# Altium schematic symbol library jlcpcb_2025_04_inductors_extended_1812.schlib: 80 symbols (part 2 of 2)
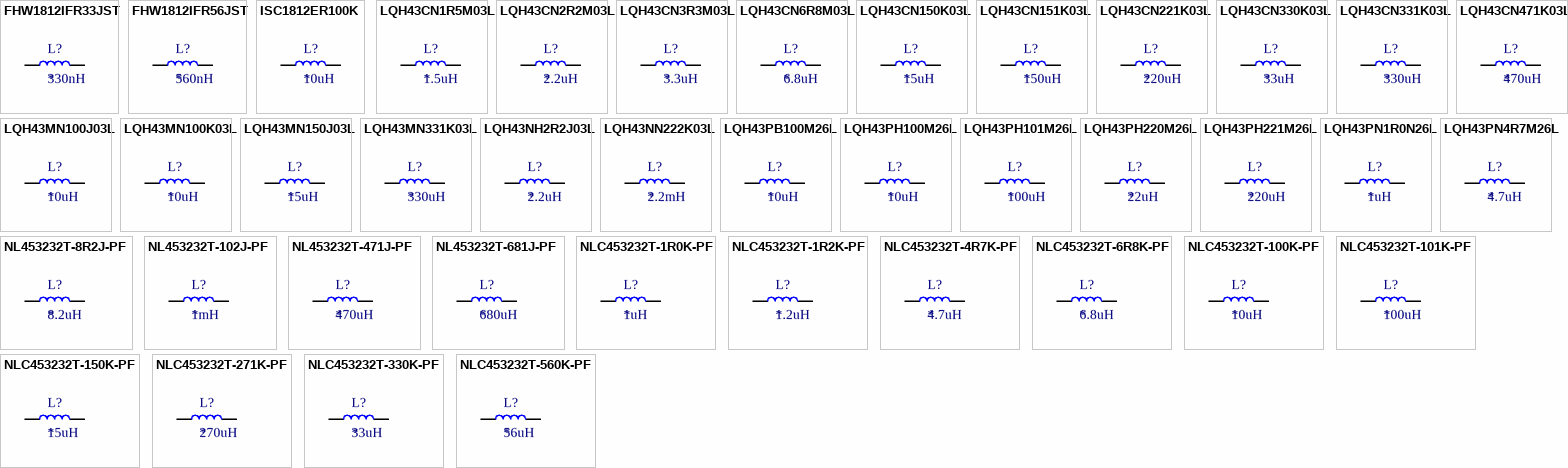
[diagram p2: symbols FHW1812IFR33JST to NLC453232T-560K-PF]

## LQH43CN330K03L
designator L?  Inductance: 33uH
Inductor, 33uH, ±10%, 1Ω, 310mA, SMD 1812; Manufacturer: Murata Electronics; Manufacturer Part Number: LQH43CN330K03L; Package Size: 1812; JLCPCB Basic Part: No; JLCPCB Part Number: C703772; Supplier 1: LCSC; Category: Inductors; Supplier Part Number 1: C703772; Tolerance: ±10%; Rated Current: 310mA; DC Resistance: 1Ω; RoHS: Yes; ComponentLink1Description: Datasheet; ComponentLink1URL: https://wmsc.lcsc.com/wmsc/upload/file/pdf/v2/lcsc/2304140030_Murata-Electronics-LQH43CN330K03L_C703772.pdf; ComponentLink2Description: JLCPCB Part URL; ComponentLink2URL: https://jlcpcb.com/partdetail/C703772; ComponentLink3Description: LCSC Part URL; ComponentLink3URL: https://lcsc.com/product-detail/Power-Inductors_Murata-Electronics-Murata-Electronics-LQH43CN330K03L_C703772.html
footprint IND-1812 (1812 (4532M) Inductor)
pins: 1, 2

## LQH43CN331K03L
designator L?  Inductance: 330uH
Inductor, 330uH, ±10%, 6.8Ω, 100mA, SMD 1812; Manufacturer: Murata Electronics; Manufacturer Part Number: LQH43CN331K03L; Package Size: 1812; JLCPCB Basic Part: No; JLCPCB Part Number: C703771; Supplier 1: LCSC; Category: Inductors; Supplier Part Number 1: C703771; Tolerance: ±10%; Rated Current: 100mA; DC Resistance: 6.8Ω; RoHS: Yes; ComponentLink1Description: Datasheet; ComponentLink1URL: https://wmsc.lcsc.com/wmsc/upload/file/pdf/v2/lcsc/2304140030_Murata-Electronics-LQH43CN331K03L_C703771.pdf; ComponentLink2Description: JLCPCB Part URL; ComponentLink2URL: https://jlcpcb.com/partdetail/C703771; ComponentLink3Description: LCSC Part URL; ComponentLink3URL: https://lcsc.com/product-detail/Power-Inductors_Murata-Electronics-Murata-Electronics-LQH43CN331K03L_C703771.html
footprint IND-1812 (1812 (4532M) Inductor)
pins: 1, 2

## LQH43CN471K03L
designator L?  Inductance: 470uH
Inductor, 470uH, ±10%, 8.5Ω, 90mA, SMD 1812; Manufacturer: Murata Electronics; Manufacturer Part Number: LQH43CN471K03L; Self-Resonant Frequency: 3MHz; Package Size: 1812; JLCPCB Basic Part: No; JLCPCB Part Number: C703770; Supplier 1: LCSC; Category: Inductors; Supplier Part Number 1: C703770; Tolerance: ±10%; Rated Current: 90mA; DC Resistance: 8.5Ω; RoHS: Yes; ComponentLink1Description: Datasheet; ComponentLink1URL: https://wmsc.lcsc.com/wmsc/upload/file/pdf/v2/lcsc/2304140030_Murata-Electronics-LQH43CN471K03L_C703770.pdf; ComponentLink2Description: JLCPCB Part URL; ComponentLink2URL: https://jlcpcb.com/partdetail/C703770; ComponentLink3Description: LCSC Part URL; ComponentLink3URL: https://lcsc.com/product-detail/Inductors-SMD_Murata-Electronics-Murata-Electronics-LQH43CN471K03L_C703770.html
footprint IND-1812 (1812 (4532M) Inductor)
pins: 1, 2

## LQH43MN100J03L
designator L?  Inductance: 10uH
Inductor, 10uH, ±5%, 560mΩ, 400mA, SMD 1812; Manufacturer: Murata Electronics; Manufacturer Part Number: LQH43MN100J03L; Package Size: 1812; JLCPCB Basic Part: No; JLCPCB Part Number: C478840; Supplier 1: LCSC; Category: Inductors; Supplier Part Number 1: C478840; Tolerance: ±5%; Rated Current: 400mA; DC Resistance: 560mΩ; RoHS: Yes; ComponentLink1Description: Datasheet; ComponentLink1URL: https://wmsc.lcsc.com/wmsc/upload/file/pdf/v2/lcsc/2304140030_Murata-Electronics-LQH43MN100J03L_C478840.pdf; ComponentLink2Description: JLCPCB Part URL; ComponentLink2URL: https://jlcpcb.com/partdetail/C478840; ComponentLink3Description: LCSC Part URL; ComponentLink3URL: https://lcsc.com/product-detail/Inductors-SMD_Murata-Electronics-Murata-Electronics-LQH43MN100J03L_C478840.html
footprint IND-1812 (1812 (4532M) Inductor)
pins: 1, 2

## LQH43MN100K03L
designator L?  Inductance: 10uH
Inductor, 10uH, ±10%, 560mΩ, 400mA, SMD 1812; Manufacturer: Murata Electronics; Manufacturer Part Number: LQH43MN100K03L; Package Size: 1812; JLCPCB Basic Part: No; JLCPCB Part Number: C426331; Supplier 1: LCSC; Category: Inductors; Supplier Part Number 1: C426331; Tolerance: ±10%; Rated Current: 400mA; DC Resistance: 560mΩ; RoHS: Yes; ComponentLink1Description: Datasheet; ComponentLink1URL: https://wmsc.lcsc.com/wmsc/upload/file/pdf/v2/lcsc/2304140030_Murata-Electronics-LQH43MN100K03L_C426331.pdf; ComponentLink2Description: JLCPCB Part URL; ComponentLink2URL: https://jlcpcb.com/partdetail/C426331; ComponentLink3Description: LCSC Part URL; ComponentLink3URL: https://lcsc.com/product-detail/Inductors-SMD_Murata-Electronics-Murata-Electronics-LQH43MN100K03L_C426331.html
footprint IND-1812 (1812 (4532M) Inductor)
pins: 1, 2

## LQH43MN150J03L
designator L?  Inductance: 15uH
Inductor, 15uH, ±5%, 730mΩ, 360mA, SMD 1812; Manufacturer: Murata Electronics; Manufacturer Part Number: LQH43MN150J03L; Package Size: 1812; JLCPCB Basic Part: No; JLCPCB Part Number: C603125; Supplier 1: LCSC; Category: Inductors; Supplier Part Number 1: C603125; Tolerance: ±5%; Rated Current: 360mA; DC Resistance: 730mΩ; RoHS: Yes; ComponentLink1Description: Datasheet; ComponentLink1URL: https://wmsc.lcsc.com/wmsc/upload/file/pdf/v2/lcsc/2304140030_Murata-Electronics-LQH43MN150J03L_C603125.pdf; ComponentLink2Description: JLCPCB Part URL; ComponentLink2URL: https://jlcpcb.com/partdetail/C603125; ComponentLink3Description: LCSC Part URL; ComponentLink3URL: https://lcsc.com/product-detail/Power-Inductors_Murata-Electronics-Murata-Electronics-LQH43MN150J03L_C603125.html
footprint IND-1812 (1812 (4532M) Inductor)
pins: 1, 2

## LQH43MN331K03L
designator L?  Inductance: 330uH
Inductor, 330uH, ±10%, 8.2Ω, 95mA, SMD 1812; Manufacturer: Murata Electronics; Manufacturer Part Number: LQH43MN331K03L; Package Size: 1812; JLCPCB Basic Part: No; JLCPCB Part Number: C703765; Supplier 1: LCSC; Category: Inductors; Supplier Part Number 1: C703765; Tolerance: ±10%; Rated Current: 95mA; DC Resistance: 8.2Ω; RoHS: Yes; ComponentLink1Description: Datasheet; ComponentLink1URL: https://wmsc.lcsc.com/wmsc/upload/file/pdf/v2/lcsc/2304140030_Murata-Electronics-LQH43MN331K03L_C703765.pdf; ComponentLink2Description: JLCPCB Part URL; ComponentLink2URL: https://jlcpcb.com/partdetail/C703765; ComponentLink3Description: LCSC Part URL; ComponentLink3URL: https://lcsc.com/product-detail/Power-Inductors_Murata-Electronics-Murata-Electronics-LQH43MN331K03L_C703765.html
footprint IND-1812 (1812 (4532M) Inductor)
pins: 1, 2

## LQH43NH2R2J03L
designator L?  Inductance: 2.2uH
Inductor, 2.2uH, ±5%, 49mΩ, SMD 1812; Manufacturer: Murata Electronics; Manufacturer Part Number: LQH43NH2R2J03L; Self-Resonant Frequency: 62MHz; Package Size: 1812; JLCPCB Basic Part: No; JLCPCB Part Number: C2046551; Supplier 1: LCSC; Category: Inductors; Supplier Part Number 1: C2046551; Tolerance: ±5%; DC Resistance: 49mΩ; RoHS: Yes; ComponentLink1Description: Datasheet; ComponentLink1URL: https://wmsc.lcsc.com/wmsc/upload/file/pdf/v2/lcsc/2308111542_Murata-Electronics-LQH43NH2R2J03L_C2046551.pdf; ComponentLink2Description: JLCPCB Part URL; ComponentLink2URL: https://jlcpcb.com/partdetail/C2046551; ComponentLink3Description: LCSC Part URL; ComponentLink3URL: https://lcsc.com/product-detail/Inductors-SMD_Murata-Electronics-Murata-Electronics-LQH43NH2R2J03L_C2046551.html
footprint IND-1812 (1812 (4532M) Inductor)
pins: 1, 2

## LQH43NN222K03L
designator L?  Inductance: 2.2mH
Inductor, 2.2mH, ±10%, 50Ω, 30mA, SMD 1812; Manufacturer: Murata Electronics; Manufacturer Part Number: LQH43NN222K03L; Self-Resonant Frequency: 1.3MHz; Q Factor: 40@252kHz; Package Size: 1812; JLCPCB Basic Part: No; JLCPCB Part Number: C703763; Supplier 1: LCSC; Category: Inductors; Supplier Part Number 1: C703763; Tolerance: ±10%; Rated Current: 30mA; DC Resistance: 50Ω; RoHS: Yes; ComponentLink1Description: Datasheet; ComponentLink1URL: https://wmsc.lcsc.com/wmsc/upload/file/pdf/v2/lcsc/2304140030_Murata-Electronics-LQH43NN222K03L_C703763.pdf; ComponentLink2Description: JLCPCB Part URL; ComponentLink2URL: https://jlcpcb.com/partdetail/C703763; ComponentLink3Description: LCSC Part URL; ComponentLink3URL: https://lcsc.com/product-detail/Inductors-SMD_Murata-Electronics-Murata-Electronics-LQH43NN222K03L_C703763.html
footprint IND-1812 (1812 (4532M) Inductor)
pins: 1, 2

## LQH43PB100M26L
designator L?  Inductance: 10uH
Inductor, 10uH, ±20%, 176.4mΩ, 620mA, SMD 1812; Manufacturer: Murata Electronics; Manufacturer Part Number: LQH43PB100M26L; Saturation Current: 1.05A; Package Size: 1812; JLCPCB Basic Part: No; JLCPCB Part Number: C2043240; Supplier 1: LCSC; Category: Inductors; Supplier Part Number 1: C2043240; Tolerance: ±20%; Rated Current: 620mA; DC Resistance: 176.4mΩ; RoHS: Yes; ComponentLink1Description: Datasheet; ComponentLink1URL: https://wmsc.lcsc.com/wmsc/upload/file/pdf/v2/lcsc/2401220220_Murata-Electronics-LQH43PB100M26L_C2043240.pdf; ComponentLink2Description: JLCPCB Part URL; ComponentLink2URL: https://jlcpcb.com/partdetail/C2043240; ComponentLink3Description: LCSC Part URL; ComponentLink3URL: https://lcsc.com/product-detail/Power-Inductors_Murata-Electronics-Murata-Electronics-LQH43PB100M26L_C2043240.html
footprint IND-1812 (1812 (4532M) Inductor)
pins: 1, 2

## LQH43PH100M26L
designator L?  Inductance: 10uH
Inductor, 10uH, ±20%, 147mΩ, 1.17A, SMD 1812; Manufacturer: Murata Electronics; Manufacturer Part Number: LQH43PH100M26L; Saturation Current: 1.05A; Self-Resonant Frequency: 20MHz; Package Size: 1812; JLCPCB Basic Part: No; JLCPCB Part Number: C701255; Supplier 1: LCSC; Category: Inductors; Supplier Part Number 1: C701255; Tolerance: ±20%; Rated Current: 1.17A; DC Resistance: 147mΩ; RoHS: Yes; ComponentLink1Description: Datasheet; ComponentLink1URL: https://wmsc.lcsc.com/wmsc/upload/file/pdf/v2/lcsc/2304140030_Murata-Electronics-LQH43PH100M26L_C701255.pdf; ComponentLink2Description: JLCPCB Part URL; ComponentLink2URL: https://jlcpcb.com/partdetail/C701255; ComponentLink3Description: LCSC Part URL; ComponentLink3URL: https://lcsc.com/product-detail/Inductors-SMD_Murata-Electronics-Murata-Electronics-LQH43PH100M26L_C701255.html
footprint IND-1812 (1812 (4532M) Inductor)
pins: 1, 2

## LQH43PH101M26L
designator L?  Inductance: 100uH
Inductor, 100uH, ±20%, 1.538Ω, 320mA, SMD 1812; Manufacturer: Murata Electronics; Manufacturer Part Number: LQH43PH101M26L; Self-Resonant Frequency: 4MHz; Package Size: 1812; JLCPCB Basic Part: No; JLCPCB Part Number: C701254; Supplier 1: LCSC; Category: Inductors; Supplier Part Number 1: C701254; Tolerance: ±20%; Rated Current: 320mA; Saturation Current: 320mA; DC Resistance: 1.538Ω; RoHS: Yes; ComponentLink1Description: Datasheet; ComponentLink1URL: https://wmsc.lcsc.com/wmsc/upload/file/pdf/v2/lcsc/2304140030_Murata-Electronics-LQH43PH101M26L_C701254.pdf; ComponentLink2Description: JLCPCB Part URL; ComponentLink2URL: https://jlcpcb.com/partdetail/C701254; ComponentLink3Description: LCSC Part URL; ComponentLink3URL: https://lcsc.com/product-detail/Inductors-SMD_Murata-Electronics-Murata-Electronics-LQH43PH101M26L_C701254.html
footprint IND-1812 (1812 (4532M) Inductor)
pins: 1, 2

## LQH43PH220M26L
designator L?  Inductance: 22uH
Inductor, 22uH, ±20%, 327mΩ, SMD 1812; Manufacturer: Murata Electronics; Manufacturer Part Number: LQH43PH220M26L; Self-Resonant Frequency: 15MHz; Package Size: 1812; JLCPCB Basic Part: No; JLCPCB Part Number: C524635; Supplier 1: LCSC; Category: Inductors; Supplier Part Number 1: C524635; Tolerance: ±20%; DC Resistance: 327mΩ; RoHS: Yes; ComponentLink1Description: Datasheet; ComponentLink1URL: https://wmsc.lcsc.com/wmsc/upload/file/pdf/v2/lcsc/2304140030_Murata-Electronics-LQH43PH220M26L_C524635.pdf; ComponentLink2Description: JLCPCB Part URL; ComponentLink2URL: https://jlcpcb.com/partdetail/C524635; ComponentLink3Description: LCSC Part URL; ComponentLink3URL: https://lcsc.com/product-detail/Inductors-SMD_Murata-Electronics-Murata-Electronics-LQH43PH220M26L_C524635.html
footprint IND-1812 (1812 (4532M) Inductor)
pins: 1, 2

## LQH43PH221M26L
designator L?  Inductance: 220uH
Inductor, 220uH, ±20%, 2.9Ω, SMD 1812; Manufacturer: Murata Electronics; Manufacturer Part Number: LQH43PH221M26L; Saturation Current: 220mA; Package Size: 1812; JLCPCB Basic Part: No; JLCPCB Part Number: C2045788; Supplier 1: LCSC; Category: Inductors; Supplier Part Number 1: C2045788; Tolerance: ±20%; DC Resistance: 2.9Ω; RoHS: Yes; ComponentLink1Description: Datasheet; ComponentLink1URL: https://wmsc.lcsc.com/wmsc/upload/file/pdf/v2/lcsc/2304140030_Murata-Electronics-LQH43PH221M26L_C2045788.pdf; ComponentLink2Description: JLCPCB Part URL; ComponentLink2URL: https://jlcpcb.com/partdetail/C2045788; ComponentLink3Description: LCSC Part URL; ComponentLink3URL: https://lcsc.com/product-detail/Power-Inductors_Murata-Electronics-Murata-Electronics-LQH43PH221M26L_C2045788.html
footprint IND-1812 (1812 (4532M) Inductor)
pins: 1, 2

## LQH43PN1R0N26L
designator L?  Inductance: 1uH
Inductor, 1uH, ±30%, 26mΩ, 3.3A, SMD 1812; Manufacturer: Murata Electronics; Manufacturer Part Number: LQH43PN1R0N26L; Saturation Current: 3.4A; Package Size: 1812; JLCPCB Basic Part: No; JLCPCB Part Number: C703761; Supplier 1: LCSC; Category: Inductors; Supplier Part Number 1: C703761; Tolerance: ±30%; Rated Current: 3.3A; DC Resistance: 26mΩ; RoHS: Yes; ComponentLink1Description: Datasheet; ComponentLink1URL: https://wmsc.lcsc.com/wmsc/upload/file/pdf/v2/lcsc/2304140030_Murata-Electronics-LQH43PN1R0N26L_C703761.pdf; ComponentLink2Description: JLCPCB Part URL; ComponentLink2URL: https://jlcpcb.com/partdetail/C703761; ComponentLink3Description: LCSC Part URL; ComponentLink3URL: https://lcsc.com/product-detail/Power-Inductors_Murata-Electronics-Murata-Electronics-LQH43PN1R0N26L_C703761.html
footprint IND-1812 (1812 (4532M) Inductor)
pins: 1, 2

## LQH43PN4R7M26L
designator L?  Inductance: 4.7uH
Inductor, 4.7uH, ±20%, 75mΩ, 1.4A, SMD 1812; Manufacturer: Murata Electronics; Manufacturer Part Number: LQH43PN4R7M26L; Self-Resonant Frequency: 35MHz; Package Size: 1812; JLCPCB Basic Part: No; JLCPCB Part Number: C701275; Supplier 1: LCSC; Category: Inductors; Supplier Part Number 1: C701275; Tolerance: ±20%; Rated Current: 1.4A; Saturation Current: 1.4A; DC Resistance: 75mΩ; RoHS: Yes; ComponentLink1Description: Datasheet; ComponentLink1URL: https://wmsc.lcsc.com/wmsc/upload/file/pdf/v2/lcsc/2009291135_Murata-Electronics-LQH43PN4R7M26L_C701275.pdf; ComponentLink2Description: JLCPCB Part URL; ComponentLink2URL: https://jlcpcb.com/partdetail/C701275; ComponentLink3Description: LCSC Part URL; ComponentLink3URL: https://lcsc.com/product-detail/Inductors-SMD_Murata-Electronics-Murata-Electronics-LQH43PN4R7M26L_C701275.html
footprint IND-1812 (1812 (4532M) Inductor)
pins: 1, 2

## NL453232T-8R2J-PF
designator L?  Inductance: 8.2uH
Inductor, 8.2uH, ±5%, 1.4Ω, 270mA, SMD 1812; Manufacturer: TDK; Manufacturer Part Number: NL453232T-8R2J-PF; Self-Resonant Frequency: 25MHz; Q Factor: 1.4@7.96MHz; Package Size: 1812; JLCPCB Basic Part: No; JLCPCB Part Number: C165808; Supplier 1: LCSC; Category: Inductors; Supplier Part Number 1: C165808; Tolerance: ±5%; Rated Current: 270mA; DC Resistance: 1.4Ω; RoHS: Yes; ComponentLink1Description: Datasheet; ComponentLink1URL: https://wmsc.lcsc.com/wmsc/upload/file/pdf/v2/lcsc/1805310824_TDK-NL453232T-8R2J-PF_C165808.pdf; ComponentLink2Description: JLCPCB Part URL; ComponentLink2URL: https://jlcpcb.com/partdetail/C165808; ComponentLink3Description: LCSC Part URL; ComponentLink3URL: https://lcsc.com/product-detail/Inductors-SMD_TDK-TDK-NL453232T-8R2J-PF_C165808.html
footprint IND-1812 (1812 (4532M) Inductor)
pins: 1, 2

## NL453232T-102J-PF
designator L?  Inductance: 1mH
Inductor, 1mH, ±5%, 40Ω, 30mA, SMD 1812; Manufacturer: TDK; Manufacturer Part Number: NL453232T-102J-PF; Self-Resonant Frequency: 2.5MHz; Q Factor: 40@0.252MHz; Package Size: 1812; JLCPCB Basic Part: No; JLCPCB Part Number: C86696; Supplier 1: LCSC; Category: Inductors; Supplier Part Number 1: C86696; Tolerance: ±5%; Rated Current: 30mA; DC Resistance: 40Ω; RoHS: Yes; ComponentLink1Description: Datasheet; ComponentLink1URL: https://wmsc.lcsc.com/wmsc/upload/file/pdf/v2/lcsc/2304140030_TDK-NL453232T-102J-PF_C86696.pdf; ComponentLink2Description: JLCPCB Part URL; ComponentLink2URL: https://jlcpcb.com/partdetail/C86696; ComponentLink3Description: LCSC Part URL; ComponentLink3URL: https://lcsc.com/product-detail/Inductors-SMD_TDK-TDK-NL453232T-102J-PF_C86696.html
footprint IND-1812 (1812 (4532M) Inductor)
pins: 1, 2

## NL453232T-471J-PF
designator L?  Inductance: 470uH
Inductor, 470uH, ±5%, 26Ω, 62mA, SMD 1812; Manufacturer: TDK; Manufacturer Part Number: NL453232T-471J-PF; Self-Resonant Frequency: 3MHz; Q Factor: 26@0.796MHz; Package Size: 1812; JLCPCB Basic Part: No; JLCPCB Part Number: C90406; Supplier 1: LCSC; Category: Inductors; Supplier Part Number 1: C90406; Tolerance: ±5%; Rated Current: 62mA; DC Resistance: 26Ω; RoHS: Yes; ComponentLink1Description: Datasheet; ComponentLink1URL: https://wmsc.lcsc.com/wmsc/upload/file/pdf/v2/lcsc/2304140030_TDK-NL453232T-471J-PF_C90406.pdf; ComponentLink2Description: JLCPCB Part URL; ComponentLink2URL: https://jlcpcb.com/partdetail/C90406; ComponentLink3Description: LCSC Part URL; ComponentLink3URL: https://lcsc.com/product-detail/Inductors-SMD_TDK-TDK-NL453232T-471J-PF_C90406.html
footprint IND-1812 (1812 (4532M) Inductor)
pins: 1, 2

## NL453232T-681J-PF
designator L?  Inductance: 680uH
Inductor, 680uH, ±5%, 30Ω, 50mA, SMD 1812; Manufacturer: TDK; Manufacturer Part Number: NL453232T-681J-PF; Self-Resonant Frequency: 3MHz; Q Factor: 30@0.796MHz; Package Size: 1812; JLCPCB Basic Part: No; JLCPCB Part Number: C76821; Supplier 1: LCSC; Category: Inductors; Supplier Part Number 1: C76821; Tolerance: ±5%; Rated Current: 50mA; DC Resistance: 30Ω; RoHS: Yes; ComponentLink1Description: Datasheet; ComponentLink1URL: https://wmsc.lcsc.com/wmsc/upload/file/pdf/v2/lcsc/2304140030_TDK-NL453232T-681J-PF_C76821.pdf; ComponentLink2Description: JLCPCB Part URL; ComponentLink2URL: https://jlcpcb.com/partdetail/C76821; ComponentLink3Description: LCSC Part URL; ComponentLink3URL: https://lcsc.com/product-detail/Inductors-SMD_TDK-TDK-NL453232T-681J-PF_C76821.html
footprint IND-1812 (1812 (4532M) Inductor)
pins: 1, 2

## NLC453232T-1R0K-PF
designator L?  Inductance: 1uH
Inductor, 1uH, ±10%, 110mΩ, 1.05A, SMD 1812; Manufacturer: TDK; Manufacturer Part Number: NLC453232T-1R0K-PF; Q Factor: 10@7.96MHz; Package Size: 1812; JLCPCB Basic Part: No; JLCPCB Part Number: C136261; Supplier 1: LCSC; Category: Inductors; Supplier Part Number 1: C136261; Tolerance: ±10%; Rated Current: 1.05A; DC Resistance: 110mΩ; RoHS: Yes; ComponentLink1Description: Datasheet; ComponentLink1URL: https://wmsc.lcsc.com/wmsc/upload/file/pdf/v2/lcsc/1806141743_TDK-NLC453232T-1R0K-PF_C136261.pdf; ComponentLink2Description: JLCPCB Part URL; ComponentLink2URL: https://jlcpcb.com/partdetail/C136261; ComponentLink3Description: LCSC Part URL; ComponentLink3URL: https://lcsc.com/product-detail/Inductors-SMD_TDK-TDK-NLC453232T-1R0K-PF_C136261.html
footprint IND-1812 (1812 (4532M) Inductor)
pins: 1, 2

## NLC453232T-1R2K-PF
designator L?  Inductance: 1.2uH
Inductor, 1.2uH, ±10%, 120mΩ, 1A, SMD 1812; Manufacturer: TDK; Manufacturer Part Number: NLC453232T-1R2K-PF; Q Factor: 10@7.96MHz; Package Size: 1812; JLCPCB Basic Part: No; JLCPCB Part Number: C88462; Supplier 1: LCSC; Category: Inductors; Supplier Part Number 1: C88462; Tolerance: ±10%; Rated Current: 1A; DC Resistance: 120mΩ; RoHS: Yes; ComponentLink1Description: Datasheet; ComponentLink1URL: https://wmsc.lcsc.com/wmsc/upload/file/pdf/v2/lcsc/2304140030_TDK-NLC453232T-1R2K-PF_C88462.pdf; ComponentLink2Description: JLCPCB Part URL; ComponentLink2URL: https://jlcpcb.com/partdetail/C88462; ComponentLink3Description: LCSC Part URL; ComponentLink3URL: https://lcsc.com/product-detail/Inductors-SMD_TDK-TDK-NLC453232T-1R2K-PF_C88462.html
footprint IND-1812 (1812 (4532M) Inductor)
pins: 1, 2

## NLC453232T-4R7K-PF
designator L?  Inductance: 4.7uH
Inductor, 4.7uH, ±10%, 270mΩ, 650mA, SMD 1812; Manufacturer: TDK; Manufacturer Part Number: NLC453232T-4R7K-PF; Self-Resonant Frequency: 7.96MHz; Q Factor: 10@7.96MHz; Package Size: 1812; JLCPCB Basic Part: No; JLCPCB Part Number: C307782; Supplier 1: LCSC; Category: Inductors; Supplier Part Number 1: C307782; Tolerance: ±10%; Rated Current: 650mA; DC Resistance: 270mΩ; RoHS: Yes; ComponentLink1Description: Datasheet; ComponentLink1URL: https://wmsc.lcsc.com/wmsc/upload/file/pdf/v2/lcsc/1912111437_TDK-NLC453232T-4R7K-PF_C307782.pdf; ComponentLink2Description: JLCPCB Part URL; ComponentLink2URL: https://jlcpcb.com/partdetail/C307782; ComponentLink3Description: LCSC Part URL; ComponentLink3URL: https://lcsc.com/product-detail/Inductors-SMD_TDK-TDK-NLC453232T-4R7K-PF_C307782.html
footprint IND-1812 (1812 (4532M) Inductor)
pins: 1, 2

## NLC453232T-6R8K-PF
designator L?  Inductance: 6.8uH
Inductor, 6.8uH, ±10%, 350mΩ, 600mA, SMD 1812; Manufacturer: TDK; Manufacturer Part Number: NLC453232T-6R8K-PF; Q Factor: 10@7.96MHz; Package Size: 1812; JLCPCB Basic Part: No; JLCPCB Part Number: C574018; Supplier 1: LCSC; Category: Inductors; Supplier Part Number 1: C574018; Tolerance: ±10%; Rated Current: 600mA; DC Resistance: 350mΩ; RoHS: Yes; ComponentLink1Description: Datasheet; ComponentLink1URL: https://wmsc.lcsc.com/wmsc/upload/file/pdf/v2/lcsc/2006011905_TDK-NLC453232T-6R8K-PF_C574018.pdf; ComponentLink2Description: JLCPCB Part URL; ComponentLink2URL: https://jlcpcb.com/partdetail/C574018; ComponentLink3Description: LCSC Part URL; ComponentLink3URL: https://lcsc.com/product-detail/Inductors-SMD_TDK-TDK-NLC453232T-6R8K-PF_C574018.html
footprint IND-1812 (1812 (4532M) Inductor)
pins: 1, 2

## NLC453232T-100K-PF
designator L?  Inductance: 10uH
Inductor, 10uH, ±10%, 500mΩ, 550mA, SMD 1812; Manufacturer: TDK; Manufacturer Part Number: NLC453232T-100K-PF; Self-Resonant Frequency: 2.52MHz; Q Factor: 10@2.52MHz; Package Size: 1812; JLCPCB Basic Part: No; JLCPCB Part Number: C433035; Supplier 1: LCSC; Category: Inductors; Supplier Part Number 1: C433035; Tolerance: ±10%; Rated Current: 550mA; DC Resistance: 500mΩ; RoHS: Yes; ComponentLink1Description: Datasheet; ComponentLink1URL: https://wmsc.lcsc.com/wmsc/upload/file/pdf/v2/lcsc/2304140030_TDK-NLC453232T-100K-PF_C433035.pdf; ComponentLink2Description: JLCPCB Part URL; ComponentLink2URL: https://jlcpcb.com/partdetail/C433035; ComponentLink3Description: LCSC Part URL; ComponentLink3URL: https://lcsc.com/product-detail/Inductors-SMD_TDK-TDK-NLC453232T-100K-PF_C433035.html
footprint IND-1812 (1812 (4532M) Inductor)
pins: 1, 2

## NLC453232T-101K-PF
designator L?  Inductance: 100uH
Inductor, 100uH, ±10%, 4Ω, 180mA, SMD 1812; Manufacturer: TDK; Manufacturer Part Number: NLC453232T-101K-PF; Q Factor: 20@0.796MHz; Package Size: 1812; JLCPCB Basic Part: No; JLCPCB Part Number: C76822; Supplier 1: LCSC; Category: Inductors; Supplier Part Number 1: C76822; Tolerance: ±10%; Rated Current: 180mA; DC Resistance: 4Ω; RoHS: Yes; ComponentLink1Description: Datasheet; ComponentLink1URL: https://wmsc.lcsc.com/wmsc/upload/file/pdf/v2/lcsc/2304140030_TDK-NLC453232T-101K-PF_C76822.pdf; ComponentLink2Description: JLCPCB Part URL; ComponentLink2URL: https://jlcpcb.com/partdetail/C76822; ComponentLink3Description: LCSC Part URL; ComponentLink3URL: https://lcsc.com/product-detail/Inductors-SMD_TDK-TDK-NLC453232T-101K-PF_C76822.html
footprint IND-1812 (1812 (4532M) Inductor)
pins: 1, 2

## NLC453232T-150K-PF
designator L?  Inductance: 15uH
Inductor, 15uH, ±10%, 700mΩ, 450mA, SMD 1812; Manufacturer: TDK; Manufacturer Part Number: NLC453232T-150K-PF; Q Factor: 10@2.52MHz; Package Size: 1812; JLCPCB Basic Part: No; JLCPCB Part Number: C76823; Supplier 1: LCSC; Category: Inductors; Supplier Part Number 1: C76823; Tolerance: ±10%; Rated Current: 450mA; DC Resistance: 700mΩ; RoHS: Yes; ComponentLink1Description: Datasheet; ComponentLink1URL: https://wmsc.lcsc.com/wmsc/upload/file/pdf/v2/lcsc/2304140030_TDK-NLC453232T-150K-PF_C76823.pdf; ComponentLink2Description: JLCPCB Part URL; ComponentLink2URL: https://jlcpcb.com/partdetail/C76823; ComponentLink3Description: LCSC Part URL; ComponentLink3URL: https://lcsc.com/product-detail/Inductors-SMD_TDK-TDK-NLC453232T-150K-PF_C76823.html
footprint IND-1812 (1812 (4532M) Inductor)
pins: 1, 2

## NLC453232T-271K-PF
designator L?  Inductance: 270uH
Inductor, 270uH, ±10%, 11Ω, 100mA, SMD 1812; Manufacturer: TDK; Manufacturer Part Number: NLC453232T-271K-PF; Q Factor: 20@0.796MHz; Package Size: 1812; JLCPCB Basic Part: No; JLCPCB Part Number: C501995; Supplier 1: LCSC; Category: Inductors; Supplier Part Number 1: C501995; Tolerance: ±10%; Rated Current: 100mA; DC Resistance: 11Ω; RoHS: Yes; ComponentLink1Description: Datasheet; ComponentLink1URL: https://wmsc.lcsc.com/wmsc/upload/file/pdf/v2/lcsc/2005151007_TDK-NLC453232T-271K-PF_C501995.pdf; ComponentLink2Description: JLCPCB Part URL; ComponentLink2URL: https://jlcpcb.com/partdetail/C501995; ComponentLink3Description: LCSC Part URL; ComponentLink3URL: https://lcsc.com/product-detail/Inductors-SMD_TDK-TDK-NLC453232T-271K-PF_C501995.html
footprint IND-1812 (1812 (4532M) Inductor)
pins: 1, 2

## NLC453232T-330K-PF
designator L?  Inductance: 33uH
Inductor, 33uH, ±10%, 1.4Ω, 300mA, SMD 1812; Manufacturer: TDK; Manufacturer Part Number: NLC453232T-330K-PF; Q Factor: 10@2.52MHz; Package Size: 1812; JLCPCB Basic Part: No; JLCPCB Part Number: C307781; Supplier 1: LCSC; Category: Inductors; Supplier Part Number 1: C307781; Tolerance: ±10%; Rated Current: 300mA; DC Resistance: 1.4Ω; RoHS: Yes; ComponentLink1Description: Datasheet; ComponentLink1URL: https://wmsc.lcsc.com/wmsc/upload/file/pdf/v2/lcsc/2404021227_TDK-NLC453232T-330K-PF_C307781.pdf; ComponentLink2Description: JLCPCB Part URL; ComponentLink2URL: https://jlcpcb.com/partdetail/C307781; ComponentLink3Description: LCSC Part URL; ComponentLink3URL: https://lcsc.com/product-detail/Inductors-SMD_TDK-TDK-NLC453232T-330K-PF_C307781.html
footprint IND-1812 (1812 (4532M) Inductor)
pins: 1, 2

## NLC453232T-560K-PF
designator L?  Inductance: 56uH
Inductor, 56uH, ±10%, 2.2Ω, 240mA, SMD 1812; Manufacturer: TDK; Manufacturer Part Number: NLC453232T-560K-PF; Q Factor: 10@2.52MHz; Package Size: 1812; JLCPCB Basic Part: No; JLCPCB Part Number: C495023; Supplier 1: LCSC; Category: Inductors; Supplier Part Number 1: C495023; Tolerance: ±10%; Rated Current: 240mA; DC Resistance: 2.2Ω; RoHS: Yes; ComponentLink1Description: Datasheet; ComponentLink1URL: https://wmsc.lcsc.com/wmsc/upload/file/pdf/v2/lcsc/2304140030_TDK-NLC453232T-560K-PF_C495023.pdf; ComponentLink2Description: JLCPCB Part URL; ComponentLink2URL: https://jlcpcb.com/partdetail/C495023; ComponentLink3Description: LCSC Part URL; ComponentLink3URL: https://lcsc.com/product-detail/Inductors-SMD_TDK-TDK-NLC453232T-560K-PF_C495023.html
footprint IND-1812 (1812 (4532M) Inductor)
pins: 1, 2